# Altium footprint library NormalICComponents.PcbLib: 4 footprints
Each footprint in its own frame and in the unit in brackets; x right, y up, seen from the top. Pads: shape width x height; smd on the part's side, far side on the other; paste and mask are expansions set on the pad; w line width, h text height; cw(c..) or ccw(c..) is an arc to the next point about the centre after c.
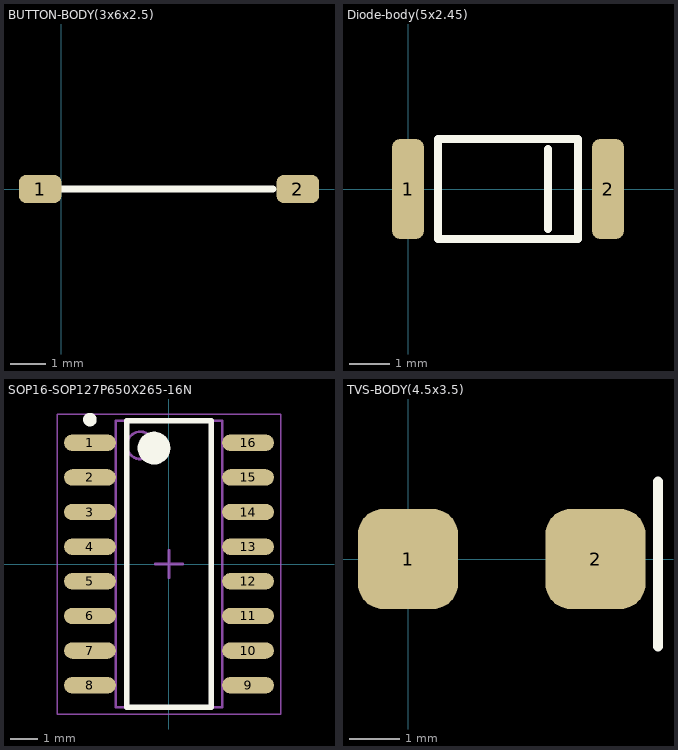
[diagram p0: the footprints below, top view; thin cyan lines are the x and y axes]

## BUTTON-BODY(3x6x2.5) [mm]
pads (2):
  rrect50% 1.2x0.8 smd: 1(-0.6,0) 2(6.7,0)
Top Overlay:
  lines w0.2: 0,0 6,0

## Diode-body(5x2.45) [mm]
pads (2):
  rrect50% 0.8x2.5 smd: 1(0,0) 2(5,0)
Top Overlay:
  lines w0.2: 3.5,-1 3.5,1 ; 0.75,-1.25 4.25,-1.25 4.25,1.25 0.75,1.25 0.75,-1.25

## SOP16-SOP127P650X265-16N [mm] "SOP, 16-Leads, Body 10.30x3.90mm, Pitch 1.27mm, IPC Medium Density"
height 2.65
pads (16):
  oval 1.9x0.6 smd: 1(-2.9,4.445) 2(-2.9,3.175) 3(-2.9,1.905) 4(-2.9,0.635) 5(-2.9,-0.635) 6(-2.9,-1.905) 7(-2.9,-3.175) 8(-2.9,-4.445) 9(2.9,-4.445) 10(2.9,-3.175) 11(2.9,-1.905) 12(2.9,-0.635) 13(2.9,0.635) 14(2.9,1.905) 15(2.9,3.175) 16(2.9,4.445)
Top Overlay:
  circle w0.6: c-0.55,4.25 r0.3
  circle w0.25: c-2.9,5.295 r0.125
  lines w0.2: -1.55,-5.25 1.55,-5.25 1.55,5.25 -1.55,5.25 -1.55,-5.25
Mechanical 13:
  circle w0.1: c-1.05,4.35 r0.5
  lines w0.1: -1.95,-5.25 1.95,-5.25 1.95,5.25 -1.95,5.25 -1.95,-5.25
Mechanical 15:
  lines w0.05: -4.1,-5.5 4.1,-5.5 4.1,5.5 -4.1,5.5 -4.1,-5.5
  lines w0.1: -0.5,0 0.5,0 ; 0,-0.5 0,0.5
3D body: height 2.65, standoff 0.1, extent -1.95,-5.25 1.95,5.25

## TVS-BODY(4.5x3.5) [mm]
pads (2):
  rrect50% 2x2 smd: 1(0,0) 2(3.75,0)
Top Overlay:
  lines w0.2: 5,-1.75 5,1.55